# Altium schematic symbol library DIODE,Rectifier,50V,10A,SMD.Schlib: 1 symbol
Pins are listed as number, name and electrical type; pins without a type are passive.

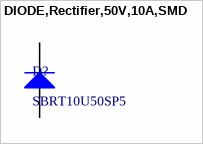
[diagram p0: symbol DIODE,Rectifier,50V,10A,SMD]

## DIODE,Rectifier,50V,10A,SMD
designator D?, comment SBRT10U50SP5
Diode Super Barrier 50V 10A Surface Mount PowerDI™ 5
pins: 1 K, 2 A